# EAGLE library part RELAY-2C-* (library mylib)
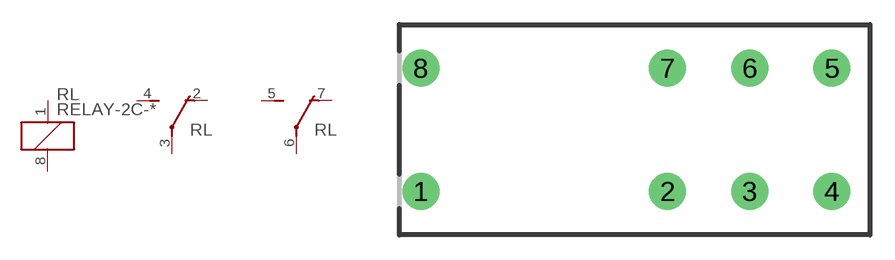
[diagram p121: symbol with the pads of JW2SN; footprint JW2SN]

Designator prefix RL; gates G$2=PART-RELAY-SW G$3=PART-RELAY-SW G$1=PART-RELAY-COIL

## RELAY-2C-942H-2C-5DS-5A (AKIZUKI: P-1214), RELAY-2C-JW2SN-5V-5A (DIGIKEY: 255-1116-ND)  [JW2SN]
1  G$1:1  pas
2  G$2:NC  pas
3  G$2:COM  pas
4  G$2:NO  pas
5  G$3:NO  pas
6  G$3:COM  pas
7  G$3:NC  pas
8  G$1:2  pas

## Footprint JW2SN (pad centres in mm)
drill 1.5: 1 1.3,-3.75; 2 16.3,-3.75; 3 21.3,-3.75; 4 26.3,-3.75; 5 26.3,3.75; 6 21.3,3.75; 7 16.3,3.75; 8 1.3,3.75